# Altium footprint library MCUFINAL 06-1-2026-REVIEW 6.PcbLib: 26 footprints (part 2 of 2)
Each footprint in its own frame and in the unit in brackets; x right, y up, seen from the top. Pads: shape width x height; smd on the part's side, far side on the other; paste and mask are expansions set on the pad; w line width, h text height; cw(c..) or ccw(c..) is an arc to the next point about the centre after c.
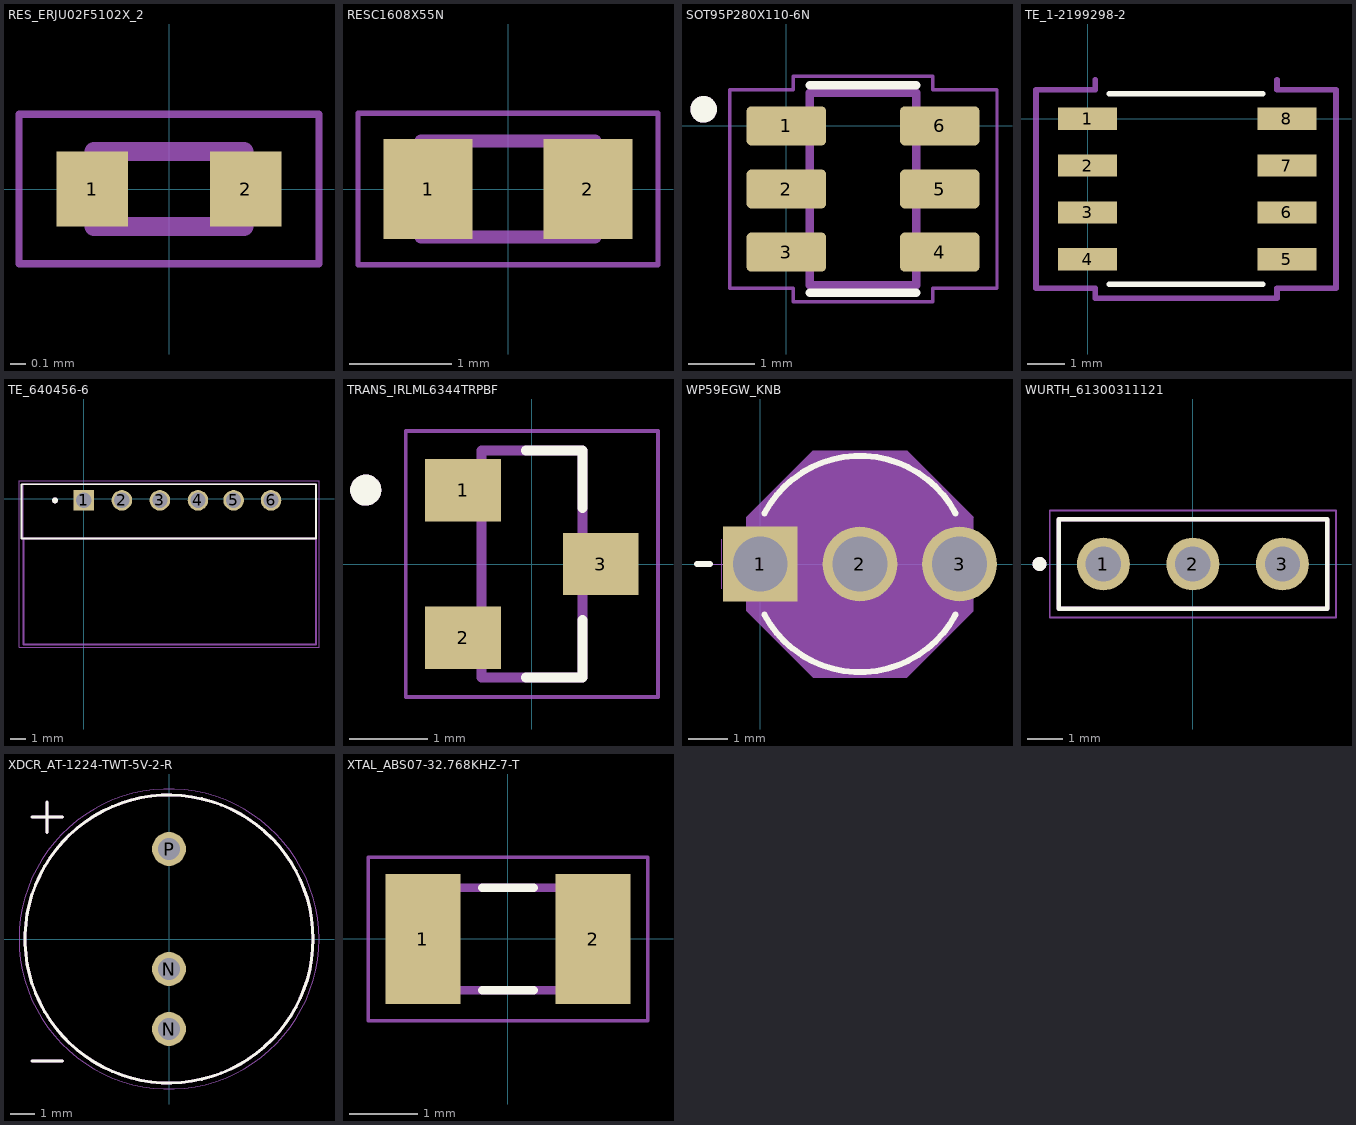
[diagram p1: the footprints below, top view; thin cyan lines are the x and y axes]

## RES_ERJU02F5102X_2 [mm]
pads (2):
  rect 0.475x0.5 smd: 1(-0.512,0) 2(0.512,0)
Mechanical 13:
  lines w0.127: -0.5,-0.25 0.5,-0.25 0.5,0.25 -0.5,0.25 -0.5,-0.25
Mechanical 15:
  lines w0.05: -1,-0.5 1,-0.5 1,0.5 -1,0.5 -1,-0.5

## RESC1608X55N [mm]
pads (2):
  rect 0.87x0.98 smd: 1(-0.78,0) 2(0.78,0)
Mechanical 13:
  lines w0.127: -0.85,-0.47 -0.85,0.47 0.85,0.47 0.85,-0.47 -0.85,-0.47
Mechanical 15:
  lines w0.05: -1.465,-0.74 -1.465,0.74 1.465,0.74 1.465,-0.74 -1.465,-0.74
3D body "step_temp.STEP": height 0.55, standoff 0, extent -0.8,-0.425 0.8,0.425

## SOT95P280X110-6N [mm]
pads (6):
  rrect25% 1.2x0.59 smd: 1(0,0) 2(0,-0.95) 3(0,-1.9) 4(2.31,-1.9) 5(2.31,-0.95) 6(2.31,0)
Top Overlay:
  circle w0.2: c-1.245,0.25 r0.1
  lines w0.127: 0.355,-2.515 1.955,-2.515 ; 0.355,0.615 1.955,0.615
Mechanical 13:
  circle w0.2: c-1.245,0.25 r0.1
  lines w0.127: 0.355,-2.4 0.355,0.5 1.955,0.5 1.955,-2.4 0.355,-2.4
Mechanical 15:
  lines w0.05: -0.85,-2.445 -0.85,0.545 0.105,0.545 0.105,0.75 2.205,0.75 2.205,0.545 3.172,0.545 3.172,-2.445 2.205,-2.445 2.205,-2.65 0.105,-2.65 0.105,-2.445 -0.85,-2.445
3D body "step_temp.STEP": height 1.1, standoff 0, extent -0.245,-2.4 2.555,0.5

## TE_1-2199298-2 [mm]
pads (8):
  rect 1.6x0.6 smd paste+0 mask+0: 1(0,0) 2(0,-1.27) 3(0,-2.54) 4(0,-3.81) 5(5.4,-3.81) 6(5.4,-2.54) 7(5.4,-1.27) 8(5.4,0)
Top Overlay:
  lines w0.152: 0.584,-4.483 4.75,-4.483 ; 0.584,0.673 4.75,0.673
Mechanical 15:
  lines w0.152: 0.203,1.054 0.203,0.787 -1.397,0.787 -1.397,-4.597 0.203,-4.597 0.203,-4.864 5.131,-4.864 5.131,-4.597 6.731,-4.597 6.731,0.787 5.131,0.787 5.131,1.054
3D body "SOIC8-N_MC_MCH.step": height 1.76, standoff 0, extent -0.254,-4.34 5.74,0.562

## TE_640456-6 [mm]
pads (6):
  rect 1.37x1.37 hole 1.02: 1(0,-0.1)
  round 1.37 hole 1.02: 2(2.54,-0.1) 3(5.08,-0.1) 4(7.62,-0.1) 5(10,-0.1) 6(12.5,-0.1)
Top Overlay:
  circle w0.2: c-1.92,-0.1 r0.1
  lines w0.127: -4.15,-2.64 -4.15,0.975 15.5,0.975 15.5,-2.64 -4.15,-2.64
Mechanical 13:
  circle w0.2: c-1.92,-0.1 r0.1
  lines w0.127: -1.27,-2.64 -4.025,-2.64 -4.025,-9.725 15.5,-9.725 15.5,-2.64 ; 8.89,-2.64 15.5,-2.64 ; 15.5,-2.64 15.5,0.975 -4.1,0.975 -4.1,-2.64 15.5,-2.64
Mechanical 15:
  lines w0.05: -4.325,-9.9 -4.325,1.2 15.7,1.2 15.7,-9.9 -4.325,-9.9

## TRANS_IRLML6344TRPBF [mm]
pads (3):
  rect 0.972x0.802 smd: 1(-0.885,0.95) 2(-0.885,-0.95) 3(0.885,0)
Top Overlay:
  circle w0.2: c-2.135,0.95 r0.1
  lines w0.127: -0.079,-1.46 0.65,-1.46 0.65,-0.721 ; -0.079,1.46 0.65,1.46 0.65,0.721
Mechanical 13:
  circle w0.2: c-2.135,0.95 r0.1
  lines w0.127: -0.65,-1.46 0.65,-1.46 0.65,1.46 -0.65,1.46 -0.65,-1.46
Mechanical 15:
  lines w0.05: -1.621,-1.71 1.621,-1.71 1.621,1.71 -1.621,1.71 -1.621,-1.71
3D body "step_temp.STEP": height 1.12, standoff 0, extent -1.255,-1.46 1.255,1.46

## WP59EGW_KNB [mil]
pads (3):
  rect 75x75 / inner round 60 / far side rect 75x75 hole 55 paste-99999 mask+0: 1(0,0)
  round 75 / inner round 60 / far side round 75 hole 55 paste-99999 mask+0: 2(100,0) 3(200,0)
Top Overlay:
  lines w6: -63.5,0 -50.6,0 ; 4.02,-50.6 ccw(c100,0) 196.06,-50.45 ; 4.02,50.6 cw(c100,0) 196.06,50.45
Mechanical 13:
  circle w0: c100,0 r103.5
  lines w1: -63.5,0 -13.5,0 ; -38.5,-25 -38.5,25
Mechanical 15:
  region: -13.5,46.74 53.26,113.5 146.74,113.5 213.5,46.74 213.5,-46.74 146.74,-113.5 53.26,-113.5 -13.5,-46.74
  lines w1: -13.5,-46.74 -13.5,46.74 53.26,113.5 146.74,113.5 213.5,46.74 213.5,-46.74 146.74,-113.5 53.26,-113.5 -13.5,-46.74
3D body "5mm_LED_Red-Green-0.stp": height 356.3, standoff -982.28, extent -15.51,-116.14 209.84,116.14

## WURTH_61300311121 [mm]
pads (3):
  round 1.5 hole 1: 1(-2.54,0) 2(0,0) 3(2.54,0)
Top Overlay:
  circle w0.2: c-4.35,0 r0.1
  lines w0.127: -3.81,-1.27 -3.81,1.27 3.81,1.27 3.81,-1.27 -3.81,-1.27
Mechanical 13:
  circle w0.2: c-4.35,0 r0.1
  lines w0.127: -3.81,-1.27 -3.81,1.27 3.81,1.27 3.81,-1.27 -3.81,-1.27
Mechanical 15:
  lines w0.05: -4.06,-1.52 -4.06,1.52 4.06,1.52 4.06,-1.52 -4.06,-1.52
3D body "step_temp.STEP": height 8.77, standoff -2.77, extent -3.81,-1.27 3.81,1.27

## XDCR_AT-1224-TWT-5V-2-R [mm]
pads (3):
  round 1.408 hole 0.9: N(0,-3.75) N(0,-1.25) P(0,3.75)
Top Overlay:
  circle w0.127: c0,0 r6
  lines w0.127: -5.715,-5.08 -4.445,-5.08 ; -5.715,5.08 -4.445,5.08 ; -5.08,4.445 -5.08,5.715
Mechanical 13:
  circle w0.127: c0,0 r6
  lines w0.127: -5.715,-5.08 -4.445,-5.08 ; -5.715,5.08 -4.445,5.08 ; -5.08,4.445 -5.08,5.715
Mechanical 15:
  circle w0.05: c0,0 r6.25
3D body "TMB12A05.step": height 9.51, standoff -2.34, extent -5.998,-5.997 6,5.997

## XTAL_ABS07-32.768KHZ-7-T [mm]
pads (2):
  rect 1.1x1.9 smd: 1(-1.25,0) 2(1.25,0)
Top Overlay:
  lines w0.127: -0.38,-0.75 0.38,-0.75 ; -0.38,0.75 0.38,0.75
Mechanical 13:
  lines w0.127: -1.6,-0.75 -1.6,0.75 1.6,0.75 1.6,-0.75 -1.6,-0.75
Mechanical 15:
  lines w0.05: -2.05,-1.2 -2.05,1.2 2.05,1.2 2.05,-1.2 -2.05,-1.2
3D body "step_temp.STEP": height 0.89, standoff 0, extent -1.6,-0.749 1.6,0.749